# EAGLE library part AS7C31026B-12TC (library Parts for D-DAQ)
1-Mbit, 12 ns, 16-bit wide SRAM
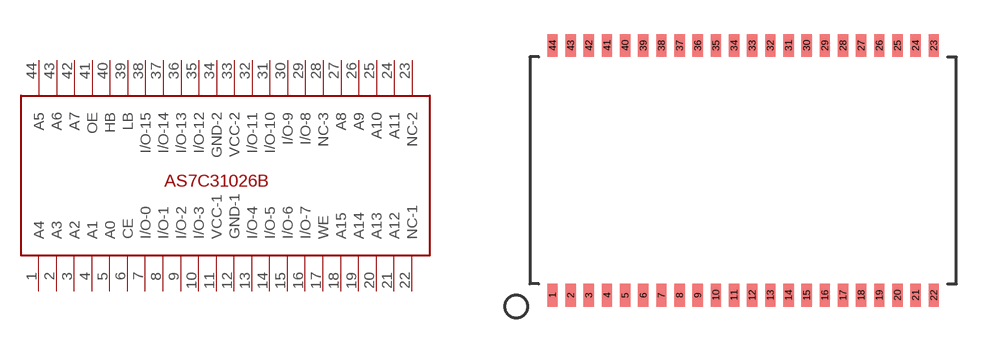
[diagram p2: symbol with the pads of TSOP-44; footprint TSOP-44]

Designator prefix -

## AS7C31026B-12TC (ACCESS_TIME: 12 ns)  [TSOP-44]
1  A4  in
2  A3  in
3  A2  in
4  A1  in
5  A0  in
6  CE
7  I/O-0
8  I/O-1
9  I/O-2
10  I/O-3
11  VCC-1  pwr
12  GND-1  pwr
13  I/O-4
14  I/O-5
15  I/O-6
16  I/O-7
17  WE  in
18  A15  in
19  A14  in
20  A13  in
21  A12  in
22  NC-1  nc
23  NC-2  nc
24  A11  in
25  A10  in
26  A9  in
27  A8  in
28  NC-3  nc
29  I/O-8
30  I/O-9
31  I/O-10
32  I/O-11
33  VCC-2  pwr
34  GND-2  pwr
35  I/O-12
36  I/O-13
37  I/O-14
38  I/O-15
39  LB
40  HB
41  OE
42  A7  in
43  A6  in
44  A5  in

## Footprint TSOP-44 (pad centres in mm)
smd 0.45 x 1: 1 -8.4,-5.5; 2 -7.6,-5.5; 3 -6.8,-5.5; 4 -6,-5.5; 5 -5.2,-5.5; 6 -4.4,-5.5; 7 -3.6,-5.5; 8 -2.8,-5.5; 9 -2,-5.5; 10 -1.2,-5.5; 11 -0.4,-5.5; 12 0.4,-5.5; 13 1.2,-5.5; 14 2,-5.5; 15 2.8,-5.5; 16 3.6,-5.5; 17 4.4,-5.5; 18 5.2,-5.5; 19 6,-5.5; 20 6.8,-5.5; 21 7.6,-5.5; 22 8.4,-5.5; 23 8.4,5.5; 24 7.6,5.5; 25 6.8,5.5; 26 6,5.5; 27 5.2,5.5; 28 4.4,5.5; 29 3.6,5.5; 30 2.8,5.5; 31 2,5.5; 32 1.2,5.5; 33 0.4,5.5; 34 -0.4,5.5; 35 -1.2,5.5; 36 -2,5.5; 37 -2.8,5.5; 38 -3.6,5.5; 39 -4.4,5.5; 40 -5.2,5.5; 41 -6,5.5; 42 -6.8,5.5; 43 -7.6,5.5; 44 -8.4,5.5